# EAGLE library part WAVESHAPER-V2.2 (library XM8)
Xonik waveshaper and sub-oscillator v2.1
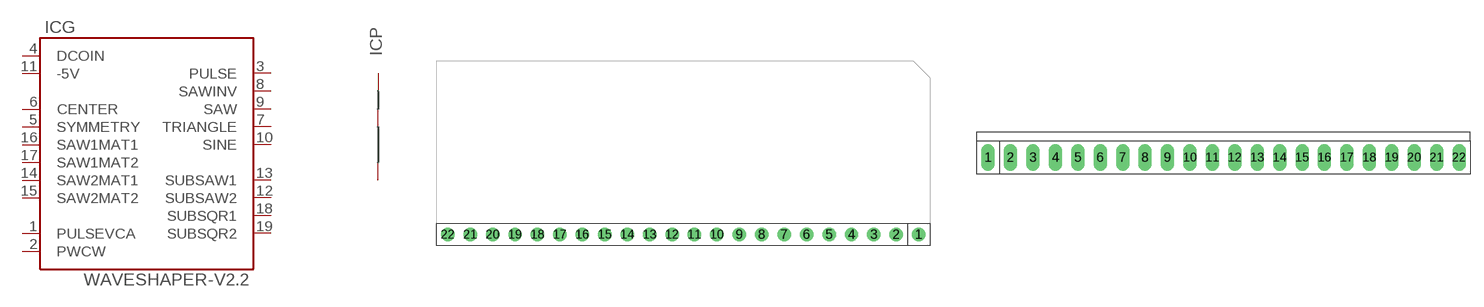
[diagram p33: symbol with the pads of XM8-WAVESHAPER-V2.2HR; footprints XM8-WAVESHAPER-V2.2HR, XM8-WAVESHAPER-V2.2V]

Designator prefix IC; gates P=XM8-PWR G=XM8-WAVESHAPER-V2.2

## WAVESHAPER-V2.2HR  [XM8-WAVESHAPER-V2.2HR]
1  G:PULSEVCA
2  G:PWCW
3  G:PULSE
4  G:DCOIN
5  G:SYMMETRY
6  G:CENTER
7  G:TRIANGLE
8  G:SAWINV
9  G:SAW
10  G:SINE
11  G:-5V  pwr
12  G:SUBSAW2
13  G:SUBSAW1
14  G:SAW2MAT1
15  G:SAW2MAT2  in
16  G:SAW1MAT1
17  G:SAW1MAT2
18  G:SUBSQR1
19  G:SUBSQR2
20  P:+V  pwr
21  P:AGND  pwr
22  P:-V  pwr

## WAVESHAPER-V2.2V  [XM8-WAVESHAPER-V2.2V]
Pads as for XM8-WAVESHAPER-V2.2HR

## Footprint XM8-WAVESHAPER-V2.2HR (pad centres in mm)
Xonik Waveshaper V2.2 with component side down
drill 1.016: 1 26.67,0; 2 24.13,0; 3 21.59,0; 4 19.05,0; 5 16.51,0; 6 13.97,0; 7 11.43,0; 8 8.89,0; 9 6.35,0; 10 3.81,0; 11 1.27,0; 12 -1.27,0; 13 -3.81,0; 14 -6.35,0; 15 -8.89,0; 16 -11.43,0; 17 -13.97,0; 18 -16.51,0; 19 -19.05,0; 20 -21.59,0; 21 -24.13,0; 22 -26.67,0

## Footprint XM8-WAVESHAPER-V2.2V (pad centres in mm)
Xonik Waveshaper V2.2 vertical
drill 1.016 long: 1 -26.67,0; 2 -24.13,0; 3 -21.59,0; 4 -19.05,0; 5 -16.51,0; 6 -13.97,0; 7 -11.43,0; 8 -8.89,0; 9 -6.35,0; 10 -3.81,0; 11 -1.27,0; 12 1.27,0; 13 3.81,0; 14 6.35,0; 15 8.89,0; 16 11.43,0; 17 13.97,0; 18 16.51,0; 19 19.05,0; 20 21.59,0; 21 24.13,0; 22 26.67,0